# Altium footprint library BZG03C15TR3.PCBLIB: 1 footprints
Each footprint in its own frame and in the unit in brackets; x right, y up, seen from the top. Pads: shape width x height; smd on the part's side, far side on the other; paste and mask are expansions set on the pad; w line width, h text height; cw(c..) or ccw(c..) is an arc to the next point about the centre after c.
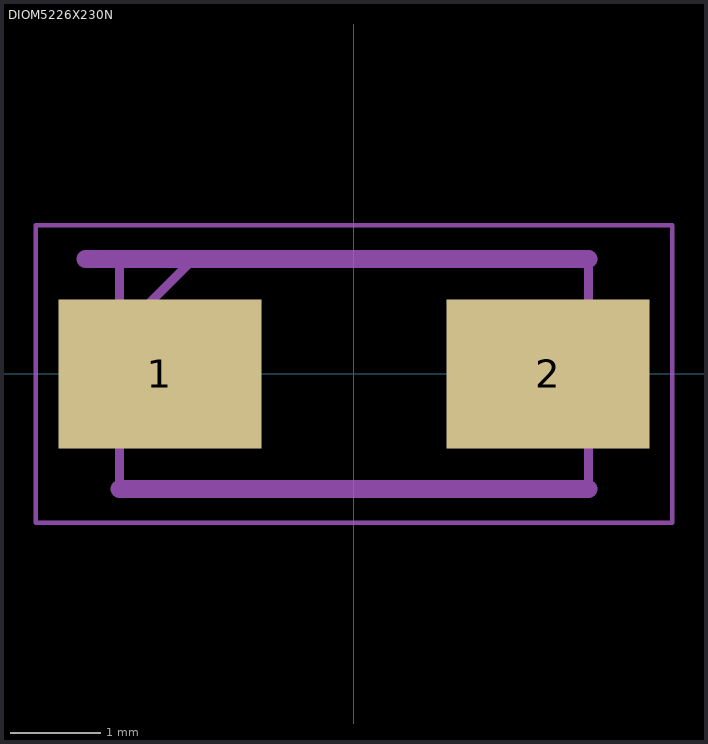
[diagram p0: the footprint, top view; thin cyan lines are the x and y axes]

## DIOM5226X230N [mm]
pads (2):
  rect 2.25x1.65 smd: 1(-2.15,0) 2(2.15,0)
tDocu:
  lines w0.05: -3.525,-1.65 3.525,-1.65 3.525,1.65 -3.525,1.65 -3.525,-1.65
  lines w0.1: -2.6,0.45 -1.775,1.275 ; -2.6,-1.275 2.6,-1.275 2.6,1.275 -2.6,1.275 -2.6,-1.275
tPlace:
  lines w0.2: -2.975,1.275 2.6,1.275 ; -2.6,-1.275 2.6,-1.275